# Altium schematic symbol library MMSZ5225BT1G.SCHLIB: 3 symbols
Pins are listed as number, name and electrical type; pins without a type are passive.

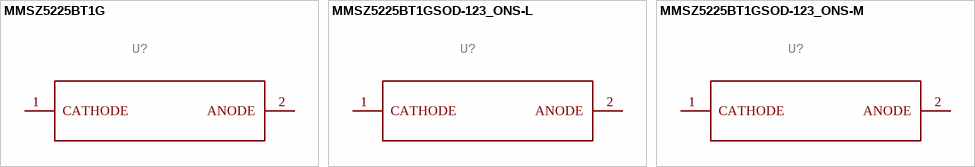
[diagram p0: symbols MMSZ5225BT1G to MMSZ5225BT1GSOD-123_ONS-M]

## MMSZ5225BT1G
designator U?
MFR_NAME: onsemi; GateName_1: A; SymbolName_1: MMSZ5225BT1G; LibraryName: MMSZ5225BT1G; DeviceSetName: MMSZ5225BT1G; Package: SOD-123_ONS; COPYRIGHT: Copyright (C) 2023 Ultra Librarian. All rights reserved.; MANUFACTURER_PART_NUMBER: MMSZ5225BT1G
footprint SOD-123_ONS
pins: 1 CATHODE, 2 ANODE

## MMSZ5225BT1GSOD-123_ONS-L
designator U?
MFR_NAME: onsemi; GateName_1: A; SymbolName_1: MMSZ5225BT1G; DeviceName: SOD-123_ONS-L; LibraryName: MMSZ5225BT1G; DeviceSetName: MMSZ5225BT1G; Package: SOD-123_ONS-L; COPYRIGHT: Copyright (C) 2023 Ultra Librarian. All rights reserved.; MANUFACTURER_PART_NUMBER: MMSZ5225BT1G
footprint SOD-123_ONS-L
pins: 1 CATHODE, 2 ANODE

## MMSZ5225BT1GSOD-123_ONS-M
designator U?
MFR_NAME: onsemi; GateName_1: A; SymbolName_1: MMSZ5225BT1G; DeviceName: SOD-123_ONS-M; LibraryName: MMSZ5225BT1G; DeviceSetName: MMSZ5225BT1G; Package: SOD-123_ONS-M; COPYRIGHT: Copyright (C) 2023 Ultra Librarian. All rights reserved.; MANUFACTURER_PART_NUMBER: MMSZ5225BT1G
footprint SOD-123_ONS-M
pins: 1 CATHODE, 2 ANODE